# Altium footprint library 带继电器产品.PcbLib: 30 footprints (part 1 of 2)
Each footprint in its own frame and in the unit in brackets; x right, y up, seen from the top. Pads: shape width x height; smd on the part's side, far side on the other; paste and mask are expansions set on the pad; w line width, h text height; cw(c..) or ccw(c..) is an arc to the next point about the centre after c.
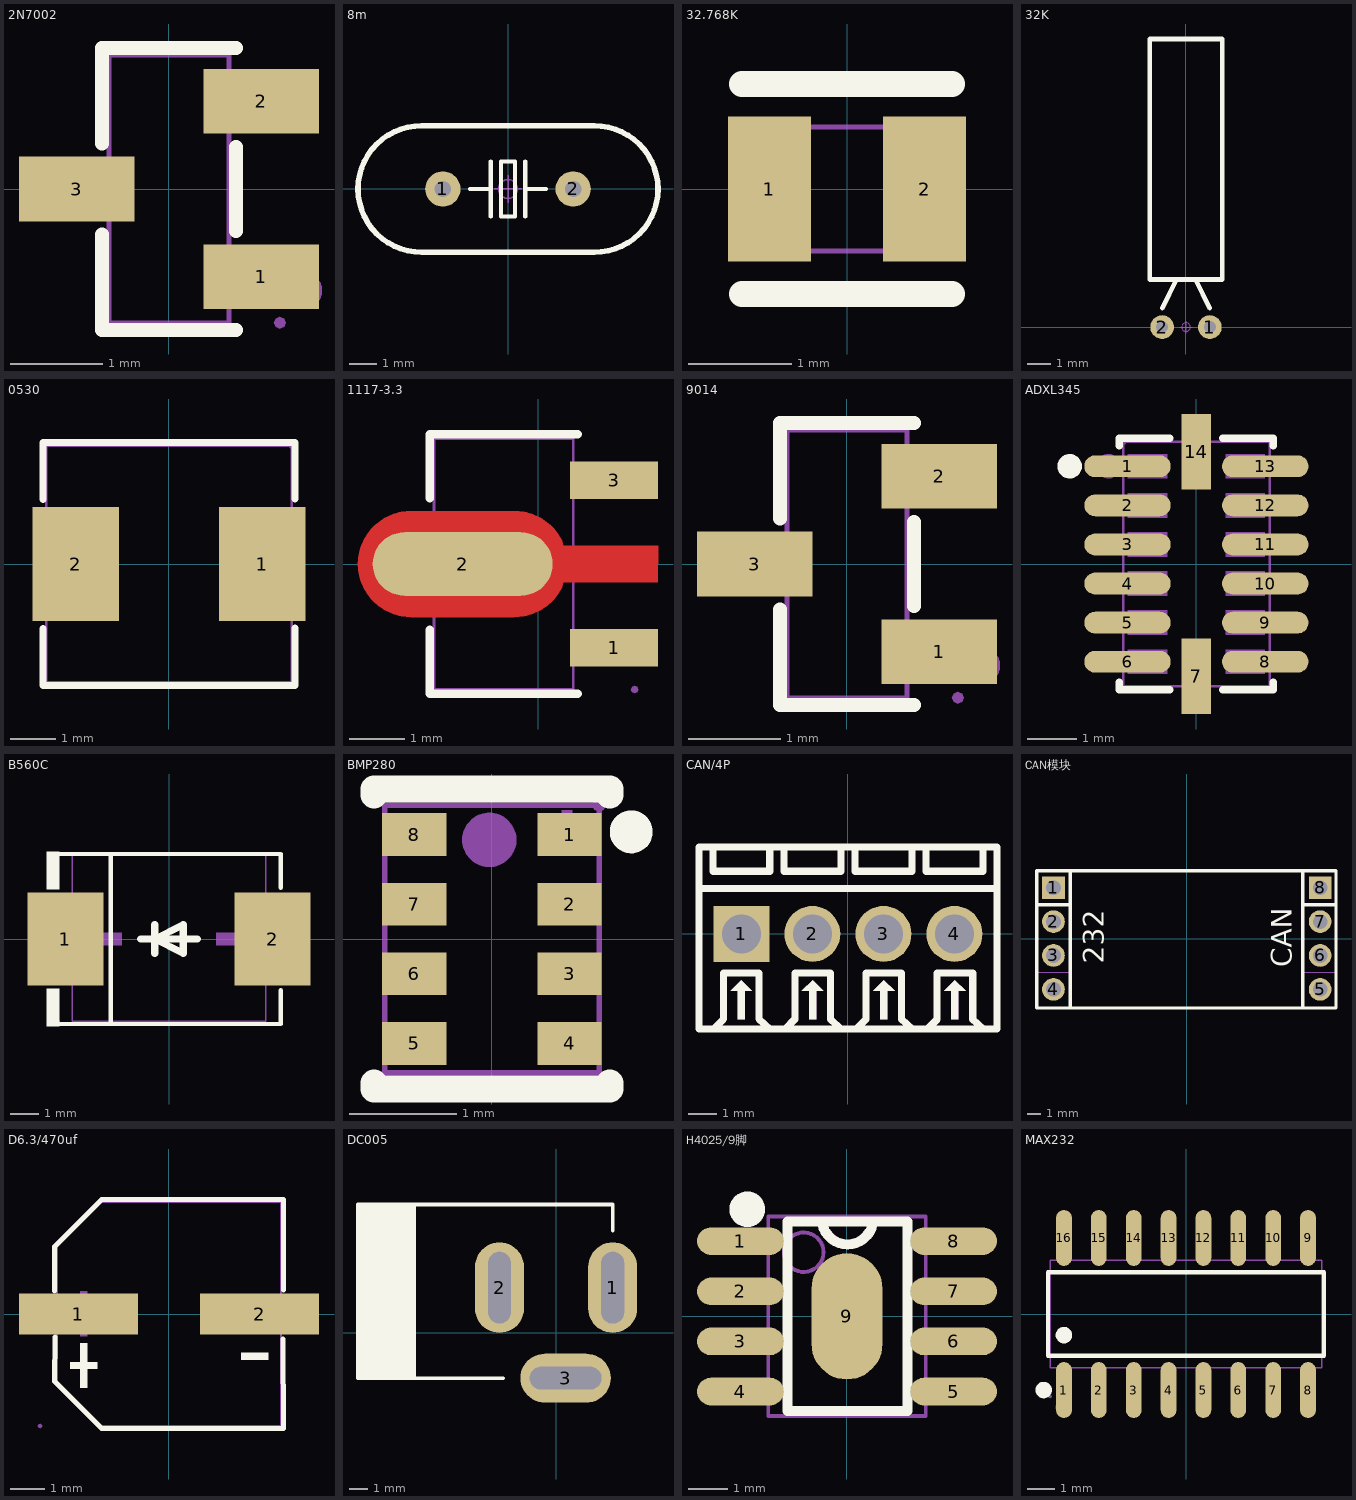
[diagram p0: the footprints below, top view; thin cyan lines are the x and y axes]

## 2N7002 [mm]
pads (3):
  rect 1.25x0.7 smd: 1(1,-0.95) 2(1,0.95) 3(-1,0)
Top Overlay:
  lines w0.152: -0.726,-0.495 -0.726,-1.526 0.726,-1.526 ; -0.726,0.495 -0.726,1.526 0.726,1.526 ; 0.726,-0.455 0.726,0.455
Mechanical 6:
  circle w0.2: c1.46,-1.1 r0.1
Mechanical 15:
  region: 1.264,-1.45 1.246,-1.406 1.2,-1.387 1.154,-1.406 1.136,-1.45 1.154,-1.494 1.2,-1.513 1.246,-1.494
  region: -1.2,-0.215 -1.2,0.215 -0.9,0.215 -0.9,-0.215
  region: -0.91,-0.215 -0.91,0.215 -0.64,0.215 -0.64,-0.215
  region: 0.9,-1.165 0.9,-0.735 1.2,-0.735 1.2,-1.165
  region: 0.64,-1.165 0.64,-0.735 0.91,-0.735 0.91,-1.165
  region: 0.9,0.735 0.9,1.165 1.2,1.165 1.2,0.735
  region: 0.64,0.735 0.64,1.165 0.91,1.165 0.91,0.735
  lines w0.051: -0.65,-1.45 0.65,-1.45 0.65,1.45 -0.65,1.45 -0.65,-1.45

## 8m [mm]
pads (2):
  round 1.3 hole 0.6: 1(-2.4,0) 2(2.4,0)
Top Overlay:
  lines w0.152: -1.397,0 -0.635,0 ; -0.635,-1.016 -0.635,1.016 ; 0.635,-1.016 0.635,1.016 ; 0.635,0 1.397,0 ; -0.254,-1.016 -0.254,1.016 0.254,1.016 0.254,-1.016 -0.254,-1.016
  lines w0.203: -3.175,2.325 ccw(c-3.2,0) -3.173,-2.325 3.175,-2.325 ccw(c3.2,0) 3.173,2.325 -3.175,2.325
Mechanical 15:
  circle w0.05: c0,0 r0.35
  lines w0.05: -0.5,0 0.5,0 ; 0,-0.5 0,0.5
3D body: height 4.13, standoff -3.45, extent -5.525,-2.325 5.525,2.325

## 32.768K [mm]
pads (2):
  rect 0.8x1.4 smd: 1(-0.75,0) 2(0.75,0)
Top Overlay:
  lines w0.254: -1.016,-1.016 1.016,-1.016 ; -1.016,1.016 1.016,1.016
Mechanical 15:
  region: 0.5,-0.6 1.025,-0.6 1.025,0.6 0.5,0.6
  region: -1.025,-0.6 -0.5,-0.6 -0.5,0.6 -1.025,0.6
  region: -0.961,-0.6 -0.979,-0.556 -1.025,-0.537 -1.071,-0.556 -1.089,-0.6 -1.071,-0.644 -1.025,-0.663 -0.979,-0.644 -0.961,-0.6
  lines w0.051: -1.025,-0.6 -1.025,0.6 1.025,0.6 1.025,-0.6 -1.025,-0.6

## 32K [mm]
pads (2):
  round 1 hole 0.5: 1(1,0) 2(-1,0)
Top Overlay:
  lines w0.2: -1,0.8 -0.4,2 ; 0.4,2 1,0.8 ; -1.524,2 1.524,2 1.524,12.1 -1.524,12.1 -1.524,2
Mechanical 15:
  circle w0.04: c0,0 r0.18
  lines w0.04: -0.254,0 0.254,0 ; 0,-0.254 0,0.254
3D body: height 3.03, standoff -2.6, extent -1.5,-0.179 1.5,12

## 0530 [mm]
pads (2):
  rect 1.9x2.5 smd mask+0.051: 1(2.05,0) 2(-2.05,0)
Top Overlay:
  lines w0.152: -2.775,-1.42 -2.776,-2.676 2.776,-2.676 2.775,-1.41 ; -2.775,1.42 -2.776,2.676 2.776,2.676 2.775,1.43
Mechanical 15:
  region: 2.76,2.6 2.76,2.625 2.725,2.66 2.675,2.66 2.64,2.625 2.64,2.6 2.64,2.575 2.675,2.54 2.725,2.54 2.76,2.575
  region: -2.7,1.05 -1.5,1.05 -1.5,-1.05 -2.7,-1.05
  region: 1.5,1.05 2.7,1.05 2.7,-1.05 1.5,-1.05
  lines w0.051: -2.7,-2.6 2.7,-2.6 2.7,2.6 -2.7,2.6 -2.7,-2.6

## 1117-3.3 [mm]
pads (3):
  rect 1.575x0.672 smd: 1(1.356,-1.5) 3(1.356,1.5)
  oval 3.226x1.14 smd: 2(-1.356,0)
Top Layer:
  region: -2.283,0.95 -0.429,0.95 -0.384,0.949 -0.34,0.946 -0.296,0.94 -0.252,0.933 -0.208,0.924 -0.165,0.912 -0.123,0.899 -0.081,0.884 -0.04,0.866 0,0.847 0.04,0.826 0.078,0.803 0.115,0.779 0.151,0.752 0.185,0.724 0.219,0.695 0.251,0.664 0.281,0.631 0.31,0.597 0.337,0.562 0.362,0.525 0.386,0.488 0.408,0.449 0.428,0.409 0.447,0.33 2.144,0.33 2.144,-0.33 0.447,-0.33 0.428,-0.409 0.408,-0.449 0.386,-0.488 0.362,-0.526 0.337,-0.562 0.31,-0.597 0.281,-0.631 0.251,-0.664 0.219,-0.695 0.185,-0.725 0.151,-0.753 0.115,-0.779 0.078,-0.804 0.04,-0.827 0,-0.848 -0.04,-0.867 -0.081,-0.884 -0.123,-0.899 -0.165,-0.913 -0.208,-0.924 -0.252,-0.934 -0.296,-0.941 -0.34,-0.946 -0.384,-0.949 -0.429,-0.95 -2.283,-0.95 -2.328,-0.949 -2.372,-0.946 -2.416,-0.941 -2.46,-0.934 -2.504,-0.924 -2.547,-0.913 -2.589,-0.899 -2.631,-0.884 -2.672,-0.867 -2.713,-0.848 -2.752,-0.827 -2.79,-0.804 -2.827,-0.779 -2.863,-0.753 -2.898,-0.725 -2.931,-0.695 -2.963,-0.664 -2.993,-0.631 -3.022,-0.597 -3.049,-0.562 -3.075,-0.526 -3.098,-0.488 -3.12,-0.449 -3.141,-0.409 -3.159,-0.369 -3.175,-0.327 -3.189,-0.285 -3.202,-0.242 -3.212,-0.199 -3.22,-0.155 -3.227,-0.111 -3.231,-0.067 -3.233,-0.022 -3.233,0.022 -3.231,0.067 -3.227,0.111 -3.22,0.155 -3.212,0.199 -3.202,0.242 -3.189,0.285 -3.175,0.327 -3.159,0.369 -3.141,0.409 -3.12,0.449 -3.098,0.488 -3.075,0.525 -3.049,0.562 -3.022,0.597 -2.993,0.631 -2.963,0.664 -2.931,0.695 -2.898,0.724 -2.863,0.752 -2.827,0.779 -2.79,0.803 -2.752,0.826 -2.713,0.847 -2.672,0.866 -2.631,0.884 -2.589,0.899 -2.547,0.912 -2.504,0.924 -2.46,0.933 -2.416,0.94 -2.372,0.946 -2.328,0.949
Top Overlay:
  lines w0.152: -1.95,-1.177 -1.95,-2.326 0.702,-2.326 ; -1.95,1.177 -1.95,2.326 0.702,2.326
Mechanical 6:
  circle w0.3: c1.715,-1.5 r0.15
Mechanical 15:
  region: 1.789,-2.25 1.77,-2.204 1.724,-2.185 1.678,-2.204 1.659,-2.25 1.678,-2.296 1.724,-2.315 1.77,-2.296 1.789,-2.25
  region: 0.439,-0.26 1.724,-0.26 1.724,0.26 0.439,0.26 -0.136,0.863 -2,0.863 -2.471,0.288 -2.471,-0.287 -2,-0.862 -0.136,-0.862
  region: 0.624,-1.25 1.724,-1.25 1.724,-1.75 0.624,-1.75
  region: 0.624,1.75 1.724,1.75 1.724,1.25 0.624,1.25
  lines w0.051: -1.874,-2.25 -1.874,2.25 0.626,2.25 0.626,-2.25 -1.874,-2.25

## 9014 [mm]
pads (3):
  rect 1.25x0.7 smd: 1(1,-0.95) 2(1,0.95) 3(-1,0)
Top Overlay:
  lines w0.152: -0.726,-0.495 -0.726,-1.526 0.726,-1.526 ; -0.726,0.495 -0.726,1.526 0.726,1.526 ; 0.726,-0.455 0.726,0.455
Mechanical 6:
  circle w0.2: c1.46,-1.1 r0.1
Mechanical 15:
  region: 0.64,0.735 0.64,1.165 0.91,1.165 0.91,0.735
  region: 0.9,0.735 0.9,1.165 1.2,1.165 1.2,0.735
  region: 0.64,-1.165 0.64,-0.735 0.91,-0.735 0.91,-1.165
  region: 0.9,-1.165 0.9,-0.735 1.2,-0.735 1.2,-1.165
  region: -0.91,-0.215 -0.91,0.215 -0.64,0.215 -0.64,-0.215
  region: -1.2,-0.215 -1.2,0.215 -0.9,0.215 -0.9,-0.215
  region: 1.264,-1.45 1.246,-1.406 1.2,-1.387 1.154,-1.406 1.136,-1.45 1.154,-1.494 1.2,-1.513 1.246,-1.494
  lines w0.051: -0.65,-1.45 -0.65,1.45 0.65,1.45 0.65,-1.45 -0.65,-1.45

## ADXL345 [mm]
pads (14):
  oval 1.769x0.448 smd: 1(-1.409,2) 2(-1.409,1.2) 3(-1.409,0.4) 4(-1.409,-0.4) 5(-1.409,-1.2) 6(-1.409,-2) 8(1.409,-2) 9(1.409,-1.2) 10(1.409,-0.4) 11(1.409,0.4) 12(1.409,1.2) 13(1.409,2)
  rect 0.6x1.545 smd: 7(0,-2.297) 14(0,2.297)
Top Overlay:
  circle w0.25: c-2.594,2 r0.125
  lines w0.152: -1.576,-2.414 -1.576,-2.576 -0.541,-2.576 ; -1.576,2.415 -1.576,2.576 -0.541,2.576 ; 0.541,-2.576 1.576,-2.576 1.576,-2.414 ; 0.541,2.576 1.576,2.576 1.576,2.415
Mechanical 6:
  circle w0.25: c-1.8,2 r0.125
Mechanical 15:
  region: 0.25,2.4 0.25,1.6 -0.25,1.6 -0.25,2.4
  region: 0.25,-1.6 0.25,-2.4 -0.25,-2.4 -0.25,-1.6
  region: 1.4,-1.75 1.4,-2.25 0.6,-2.25 0.6,-1.75
  region: 1.4,-0.95 1.4,-1.45 0.6,-1.45 0.6,-0.95
  region: 1.4,-0.15 1.4,-0.65 0.6,-0.65 0.6,-0.15
  region: 1.4,0.65 1.4,0.15 0.6,0.15 0.6,0.65
  region: 1.4,1.45 1.4,0.95 0.6,0.95 0.6,1.45
  region: 1.4,2.25 1.4,1.75 0.6,1.75 0.6,2.25
  region: -0.6,2.25 -0.6,1.75 -1.4,1.75 -1.4,2.25
  region: -0.6,1.45 -0.6,0.95 -1.4,0.95 -1.4,1.45
  region: -0.6,0.65 -0.6,0.15 -1.4,0.15 -1.4,0.65
  region: -0.6,-0.15 -0.6,-0.65 -1.4,-0.65 -1.4,-0.15
  region: -0.6,-0.95 -0.6,-1.45 -1.4,-1.45 -1.4,-0.95
  region: -0.6,-1.75 -0.6,-2.25 -1.4,-2.25 -1.4,-1.75
  region: -1.5,2.436 -1.456,2.454 -1.437,2.5 -1.456,2.546 -1.5,2.564 -1.544,2.546 -1.563,2.5 -1.544,2.454 -1.5,2.436
  lines w0.051: -1.5,-2.5 -1.5,2.5 1.5,2.5 1.5,-2.5 -1.5,-2.5

## B560C [mm]
pads (2):
  rect 2.7x3.3 smd paste+0 mask+0.051: 1(-3.686,0) 2(3.686,0)
Top Overlay:
  region: -3.9,-3.102 -3.9,-1.772 -4.357,-1.772 -4.357,-3.102
  region: -3.9,3.102 -3.9,1.772 -4.357,1.772 -4.357,3.102
  lines w0.152: -3.976,-3.026 3.976,-3.026 3.976,-1.823 ; -3.976,3.026 3.976,3.026 3.976,1.823 ; -2.069,-3.026 -2.069,3.026
  lines w0.254: -1.016,0 1.016,0 ; -0.508,0.508 -0.508,-0.508 -0.508,0 ; -0.508,0 0.508,0.508 0.508,-0.508 -0.508,0
Mechanical 6:
  region: 2.794,-1.475 2.794,1.475 2.351,1.475 2.351,-1.475
  region: 3.457,-0.221 3.457,0.221 1.687,0.221 1.687,-0.221
  region: -3.457,-0.221 -3.457,0.221 -1.687,0.221 -1.687,-0.221
Mechanical 15:
  region: 3.95,-1.5 3.95,1.5 2.7,1.5 2.7,-1.5
  region: -3.95,-1.5 -3.95,1.5 -2.7,1.5 -2.7,-1.5
  region: -4.014,-2.95 -3.996,-2.995 -3.95,-3.014 -3.904,-2.995 -3.886,-2.95 -3.904,-2.905 -3.95,-2.886 -3.996,-2.905
  lines w0.051: -3.45,-2.921 3.45,-2.921 3.45,2.979 -3.45,2.979 -3.45,-2.921

## BMP280 [mm]
pads (8):
  rect 0.6x0.4 smd: 1(0.725,0.975) 2(0.725,0.325) 3(0.725,-0.325) 4(0.725,-0.975) 5(-0.725,-0.975) 6(-0.725,-0.325) 7(-0.725,0.325) 8(-0.725,0.975)
Top Overlay:
  circle w0.2: c1.3,1 r0.1
  lines w0.254: -1.1,-1.344 -1.1,-1.4 1.1,-1.4 1.1,-1.344 ; -1.1,1.344 -1.1,1.4 1.1,1.4 1.1,1.344
Mechanical 6:
  circle w0.254: c-0.025,0.925 r0.127
  region: 0.65,1.2 0.65,0.8 0.75,0.8 0.75,1.2
Mechanical 15:
  region: 1.064,1.25 1.046,1.294 1,1.313 0.954,1.294 0.936,1.25 0.954,1.206 1,1.187 1.046,1.206 1.064,1.25
  region: -0.9,-0.825 -0.55,-0.825 -0.55,-1.125 -0.9,-1.125
  region: -0.9,-0.175 -0.55,-0.175 -0.55,-0.475 -0.9,-0.475
  region: -0.9,0.475 -0.55,0.475 -0.55,0.175 -0.9,0.175
  region: -0.9,1.125 -0.55,1.125 -0.55,0.825 -0.9,0.825
  region: 0.55,-0.825 0.9,-0.825 0.9,-1.125 0.55,-1.125
  region: 0.55,-0.175 0.9,-0.175 0.9,-0.475 0.55,-0.475
  region: 0.55,0.475 0.9,0.475 0.9,0.175 0.55,0.175
  region: 0.55,1.125 0.9,1.125 0.9,0.825 0.55,0.825
  lines w0.051: -1,-1.25 -1,1.25 1,1.25 1,-1.25 -1,-1.25

## CAN/4P [mm]
pads (4):
  rect 2x2 hole 1.4: 1(-3.81,0)
  round 2 hole 1.4: 2(-1.27,0) 3(1.27,0) 4(3.81,0)
Top Overlay:
  region: -3.81,-1.651 -4.191,-2.032 -3.937,-2.032 -3.937,-3.048 -3.683,-3.048 -3.683,-2.032 -3.429,-2.032
  region: -1.263,-1.652 -1.644,-2.033 -1.39,-2.033 -1.39,-3.049 -1.136,-3.049 -1.136,-2.033 -0.882,-2.033
  region: 1.286,-1.652 0.905,-2.033 1.159,-2.033 1.159,-3.049 1.413,-3.049 1.413,-2.033 1.667,-2.033
  region: 3.826,-1.652 3.445,-2.033 3.699,-2.033 3.699,-3.049 3.953,-3.049 3.953,-2.033 4.207,-2.033
  lines w0.254: -5.33,1.628 5.33,1.628 ; -4.828,3.1 -4.828,2.24 -2.794,2.24 -2.794,3.1 ; -4.797,-3.4 -4.445,-3.048 -4.445,-1.397 -3.175,-1.397 -3.175,-3.048 -2.79,-3.4 ; -2.283,3.101 -2.283,2.24 -0.249,2.24 -0.249,3.101 ; -2.252,-3.4 -1.898,-3.049 -1.898,-1.398 -0.628,-1.398 -0.628,-3.049 -0.242,-3.4 ; 0.257,3.1 0.257,2.24 2.291,2.24 2.291,3.1 ; 0.298,-3.4 0.652,-3.049 0.652,-1.398 1.922,-1.398 1.922,-3.049 2.308,-3.4 ; 2.797,3.1 2.797,2.24 4.831,2.24 4.831,3.1 ; 2.838,-3.4 3.192,-3.049 3.192,-1.398 4.462,-1.398 4.462,-3.049 4.848,-3.4 ; -5.33,-3.4 -5.33,3.1 5.33,3.1 5.33,-3.4 -5.33,-3.4
Mechanical 6:
  region: -3.81,-1.651 -4.191,-2.032 -3.937,-2.032 -3.937,-3.048 -3.683,-3.048 -3.683,-2.032 -3.429,-2.032
  region: -1.263,-1.652 -1.644,-2.033 -1.39,-2.033 -1.39,-3.049 -1.136,-3.049 -1.136,-2.033 -0.882,-2.033
  region: 1.286,-1.652 0.905,-2.033 1.159,-2.033 1.159,-3.049 1.413,-3.049 1.413,-2.033 1.667,-2.033
  region: 3.826,-1.652 3.445,-2.033 3.699,-2.033 3.699,-3.049 3.953,-3.049 3.953,-2.033 4.207,-2.033
Mechanical 15:
  region: -3.198,0 -3.245,0.234 -3.377,0.433 -3.576,0.565 -3.81,0.612 -4.044,0.565 -4.243,0.433 -4.375,0.234 -4.422,0 -4.375,-0.234 -4.243,-0.433 -4.044,-0.565 -3.81,-0.612 -3.576,-0.565 -3.377,-0.433 -3.245,-0.234
  region: -0.658,0 -0.705,0.234 -0.837,0.433 -1.036,0.565 -1.27,0.612 -1.504,0.565 -1.703,0.433 -1.835,0.234 -1.882,0 -1.835,-0.234 -1.703,-0.433 -1.504,-0.565 -1.27,-0.612 -1.036,-0.565 -0.837,-0.433 -0.705,-0.234
  region: 1.882,0 1.835,0.234 1.703,0.433 1.504,0.565 1.27,0.612 1.036,0.565 0.837,0.433 0.705,0.234 0.658,0 0.705,-0.234 0.837,-0.433 1.036,-0.565 1.27,-0.612 1.504,-0.565 1.703,-0.433 1.835,-0.234
  region: 4.422,0 4.375,0.234 4.243,0.433 4.044,0.565 3.81,0.612 3.576,0.565 3.377,0.433 3.245,0.234 3.198,0 3.245,-0.234 3.377,-0.433 3.576,-0.565 3.81,-0.612 4.044,-0.565 4.243,-0.433 4.375,-0.234
  region: -5.265,-3.4 -5.284,-3.354 -5.33,-3.335 -5.376,-3.354 -5.395,-3.4 -5.376,-3.446 -5.33,-3.465 -5.284,-3.446 -5.265,-3.4
  lines w0.051: -5.33,-3.4 -5.33,3.1 5.33,3.1 5.33,-3.4 -5.33,-3.4

## CAN模块 [mm]
pads (8):
  rect 1.7x1.7 hole 1.1: 1(-10,3.81) 8(10,3.81)
  round 1.7 hole 1.1: 2(-10,1.27) 3(-10,-1.27) 4(-10,-3.81) 5(10,-3.81) 6(10,-1.27) 7(10,1.27)
Top Overlay:
  lines w0.254: -11.25,2.54 -8.75,2.54 ; -8.763,5.08 8.89,5.08 ; -8.636,-5.207 8.763,-5.207 ; 8.689,2.54 11.189,2.54 ; -11.25,-5.207 -11.25,5.08 -8.75,5.08 -8.75,-5.207 -11.25,-5.207 ; 8.689,-5.207 8.689,5.08 11.189,5.08 11.189,-5.207 8.689,-5.207
  text "CAN" at 7.874,-2.159 h1.52
  text "232" at -6.223,-1.905 h1.52
Mechanical 15:
  region: -9.68,4.13 -9.68,3.49 -10.32,3.49 -10.32,4.13
  region: -9.68,1.59 -9.68,0.95 -10.32,0.95 -10.32,1.59
  region: -9.68,-0.95 -9.68,-1.59 -10.32,-1.59 -10.32,-0.95
  region: -11.25,5.02 -11.225,5.02 -11.19,5.055 -11.19,5.105 -11.225,5.14 -11.25,5.14 -11.275,5.14 -11.31,5.105 -11.31,5.055 -11.275,5.02 -11.25,5.02
  region: 10.259,4.13 10.259,3.49 9.619,3.49 9.619,4.13
  region: 10.259,1.59 10.259,0.95 9.619,0.95 9.619,1.59
  region: 10.259,-0.95 10.259,-1.59 9.619,-1.59 9.619,-0.95
  region: 8.689,5.02 8.714,5.02 8.749,5.055 8.749,5.105 8.714,5.14 8.689,5.14 8.664,5.14 8.629,5.105 8.629,5.055 8.664,5.02 8.689,5.02
  lines w0.051: -11.25,-2.54 -11.25,5.08 -8.75,5.08 -8.75,-2.54 -11.25,-2.54 ; 8.689,-2.54 8.689,5.08 11.189,5.08 11.189,-2.54 8.689,-2.54

## D6.3/470uf [mm]
pads (2):
  rect 3.5x1.2 smd: 1(-2.67,0) 2(2.67,0)
Top Overlay:
  region: -2.614,-0.858 -2.614,-2.178 -2.416,-2.178 -2.416,-0.858
  region: -2.911,-1.419 -2.911,-1.617 -2.119,-1.617 -2.119,-1.419
  region: 2.921,-1.143 2.921,-1.341 2.129,-1.341 2.129,-1.143
  lines w0.152: -3.376,0.686 -3.376,1.98 -1.98,3.376 3.376,3.376 3.369,0.708 ; -3.362,-0.686 -3.376,-1.981 -1.981,-3.376 3.376,-3.376 3.356,-0.739
Mechanical 6:
  region: -2.41,-0.654 -2.41,0.666 -2.608,0.666 -2.608,-0.654
  region: -1.88,0.099 -3.2,0.099 -3.2,-0.099 -1.88,-0.099
  region: 2.848,0.099 2.848,-0.099 2.056,-0.099 2.056,0.099
Mechanical 15:
  region: 1.4,0.325 3.8,0.325 3.8,-0.325 1.4,-0.325
  region: -3.8,0.325 -1.4,0.325 -1.4,-0.325 -3.8,-0.325
  region: -3.736,-3.3 -3.754,-3.256 -3.8,-3.237 -3.846,-3.256 -3.864,-3.3 -3.846,-3.344 -3.8,-3.363 -3.754,-3.344 -3.736,-3.3
  lines w0.051: -3.3,-1.98 -3.3,1.98 -1.98,3.3 3.3,3.3 3.3,-3.3 -1.98,-3.3 -3.3,-1.98

## DC005 [mm]
pads (3):
  oval 2.6x4.8 hole 1.2 slot 3.8 at 90 deg: 1(3,2.4) 2(-3,2.4)
  oval 4.8x2.6 hole 1.2 slot 3.8 at 0 deg: 3(0.5,-2.4)
Top Overlay:
  rectangle: -10.5,-2.4 -7.414,6.8
  lines w0.2: -2.8,-2.4 -10.5,-2.4 -10.5,6.8 3,6.8 3,5.425
3D body: height 11.2, standoff -3.8, extent -10.5,-2.4 3.55,6.9

## H4025/9脚 [mm]
pads (9):
  oval 2.2x0.7 smd: 1(-2.7,1.905) 2(-2.7,0.635) 3(-2.7,-0.635) 4(-2.7,-1.905) 5(2.7,-1.905) 6(2.7,-0.635) 7(2.7,0.635) 8(2.7,1.905)
  oval 1.8x3.2 smd: 9(0,0)
Top Overlay:
  circle w0.5: c-2.527,2.712 r0.2
  lines w0.254: -0.622,2.331 ccw(c0.013,2.474) 0.648,2.331 ; -1.511,-2.4 -1.511,2.4 1.537,2.4 1.537,-2.4 -1.511,-2.4
Mechanical 13:
  circle w0.1: c-1.095,1.625 r0.5
  lines w0.1: -1.995,-2.525 -1.995,2.525 1.995,2.525 1.995,-2.525 -1.995,-2.525
3D body: height 1.75, standoff 0, extent -3.1,-2.5 3.1,2.5

## MAX232 [mm]
pads (16):
  oval 0.574x2.038 smd: 1(-4.445,-2.769) 2(-3.175,-2.769) 3(-1.905,-2.769) 4(-0.635,-2.769) 5(0.635,-2.769) 6(1.905,-2.769) 7(3.175,-2.769) 8(4.445,-2.769) 9(4.445,2.769) 10(3.175,2.769) 11(1.905,2.769) 12(0.635,2.769) 13(-0.635,2.769) 14(-1.905,2.769) 15(-3.175,2.769) 16(-4.445,2.769)
Top Overlay:
  circle w0.3: c-4.445,-0.769 r0.15
  circle w0.3: c-5.184,-2.769 r0.15
  lines w0.152: -5.026,-1.521 5.026,-1.521 5.026,1.521 -5.026,1.521 -5.026,-1.521
Mechanical 6:
  circle w0.3: c-4.445,-3.4 r0.15
Mechanical 15:
  region: -4.886,-3 -4.904,-2.955 -4.95,-2.936 -4.996,-2.955 -5.014,-3 -4.996,-3.045 -4.95,-3.064 -4.904,-3.045
  region: 4.23,1.94 4.23,2.36 4.66,2.36 4.66,1.94
  region: 4.23,2.35 4.23,3 4.66,3 4.66,2.35
  region: 2.96,1.94 2.96,2.36 3.39,2.36 3.39,1.94
  region: 2.96,2.35 2.96,3 3.39,3 3.39,2.35
  region: 1.69,1.94 1.69,2.36 2.12,2.36 2.12,1.94
  region: 1.69,2.35 1.69,3 2.12,3 2.12,2.35
  region: 0.42,1.94 0.42,2.36 0.85,2.36 0.85,1.94
  region: 0.42,2.35 0.42,3 0.85,3 0.85,2.35
  region: -0.85,1.94 -0.85,2.36 -0.42,2.36 -0.42,1.94
  region: -0.85,2.35 -0.85,3 -0.42,3 -0.42,2.35
  region: -2.12,1.94 -2.12,2.36 -1.69,2.36 -1.69,1.94
  region: -2.12,2.35 -2.12,3 -1.69,3 -1.69,2.35
  region: -3.39,1.94 -3.39,2.36 -2.96,2.36 -2.96,1.94
  region: -3.39,2.35 -3.39,3 -2.96,3 -2.96,2.35
  region: -4.66,1.94 -4.66,2.36 -4.23,2.36 -4.23,1.94
  region: -4.66,2.35 -4.66,3 -4.23,3 -4.23,2.35
  region: 4.23,-2.36 4.23,-1.94 4.66,-1.94 4.66,-2.36
  region: 4.23,-3 4.23,-2.35 4.66,-2.35 4.66,-3
  region: 2.96,-2.36 2.96,-1.94 3.39,-1.94 3.39,-2.36
  region: 2.96,-3 2.96,-2.35 3.39,-2.35 3.39,-3
  region: 1.69,-2.36 1.69,-1.94 2.12,-1.94 2.12,-2.36
  region: 1.69,-3 1.69,-2.35 2.12,-2.35 2.12,-3
  region: 0.42,-2.36 0.42,-1.94 0.85,-1.94 0.85,-2.36
  region: 0.42,-3 0.42,-2.35 0.85,-2.35 0.85,-3
  region: -0.85,-2.36 -0.85,-1.94 -0.42,-1.94 -0.42,-2.36
  region: -0.85,-3 -0.85,-2.35 -0.42,-2.35 -0.42,-3
  region: -2.12,-2.36 -2.12,-1.94 -1.69,-1.94 -1.69,-2.36
  region: -2.12,-3 -2.12,-2.35 -1.69,-2.35 -1.69,-3
  region: -3.39,-2.36 -3.39,-1.94 -2.96,-1.94 -2.96,-2.36
  region: -3.39,-3 -3.39,-2.35 -2.96,-2.35 -2.96,-3
  region: -4.66,-2.36 -4.66,-1.94 -4.23,-1.94 -4.23,-2.36
  region: -4.66,-3 -4.66,-2.35 -4.23,-2.35 -4.23,-3
  lines w0.051: -4.95,-1.95 -4.95,1.95 4.95,1.95 4.95,-1.95 -4.95,-1.95